# Altium footprint library PMEG6030EVPX.PCBLIB: 1 footprints
Each footprint in its own frame and in the unit in brackets; x right, y up, seen from the top. Pads: shape width x height; smd on the part's side, far side on the other; paste and mask are expansions set on the pad; w line width, h text height; cw(c..) or ccw(c..) is an arc to the next point about the centre after c.
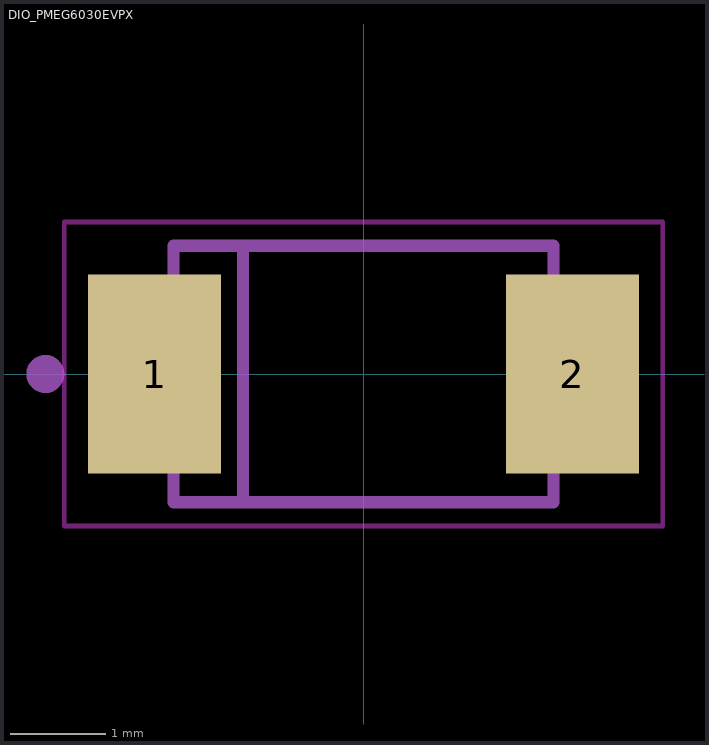
[diagram p0: the footprint, top view; thin cyan lines are the x and y axes]

## DIO_PMEG6030EVPX [mm]
pads (2):
  rect 1.4x2.1 smd paste+0: 1(-2.2,0) 2(2.2,0)
Top keep-out:
  lines w0.05: -3.15,-1.6 -3.15,1.6 3.15,1.6 3.15,-1.6 -3.15,-1.6
Top Paste:
  region: -2.8,-0.95 -2.8,0.95 -1.6,0.95 -1.6,-0.95
  region: 1.6,-0.95 1.6,0.95 2.8,0.95 2.8,-0.95
tDocu:
  circle w0.2: c-3.35,0 r0.1
  lines w0.127: -1.27,-1.27 -1.27,1.27 ; -2,-1.35 -2,1.35 2,1.35 2,-1.35 -2,-1.35
tPlace:
  circle w0.2: c-3.35,0 r0.1
  lines w0.127: -1.18,-1.35 1.18,-1.35 ; -1.18,1.35 1.18,1.35